# EAGLE library part TI_PCM1774 (library johnmamish-texas)
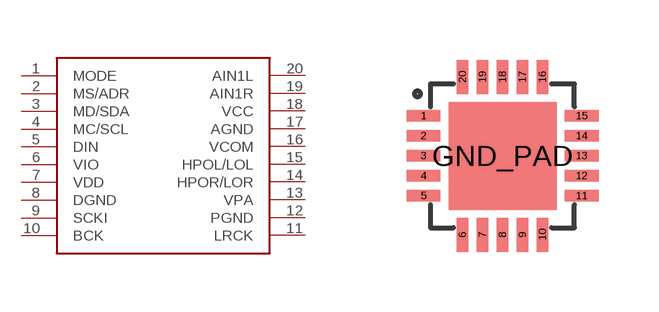
[diagram p4: symbol with the pads of TI_QFN_20; footprint TI_QFN_20]

Designator prefix -

## TI_PCM1774  [TI_QFN_20]
1  MODE
2  MS/ADR
3  MD/SDA
4  MC/SCL
5  DIN
6  VIO
7  VDD
8  DGND
9  SCKI
10  BCK
11  LRCK
12  PGND
13  VPA
14  HPOR/LOR
15  HPOL/LOL
16  VCOM
17  AGND
18  VCC
19  AIN1R
20  AIN1L

## Footprint TI_QFN_20 (pad centres in mm)
smd 0.85 x 0.28: 1 -0.975,-0.975; 2 -0.975,-1.475; 3 -0.975,-1.975; 4 -0.975,-2.475; 5 -0.975,-2.975; 11 2.975,-2.975; 12 2.975,-2.475; 13 2.975,-1.975; 14 2.975,-1.475; 15 2.975,-0.975
smd 0.28 x 0.85: 6 0,-3.95; 7 0.5,-3.95; 8 1,-3.95; 9 1.5,-3.95; 10 2,-3.95; 16 2,0; 17 1.5,0; 18 1,0; 19 0.5,0; 20 0,0
smd 2.7 x 2.7: GND_PAD 1,-1.975